# Altium footprint library CE_22X35MM.PcbLib: 1 footprints
Each footprint in its own frame and in the unit in brackets; x right, y up, seen from the top. Pads: shape width x height; smd on the part's side, far side on the other; paste and mask are expansions set on the pad; w line width, h text height; cw(c..) or ccw(c..) is an arc to the next point about the centre after c.
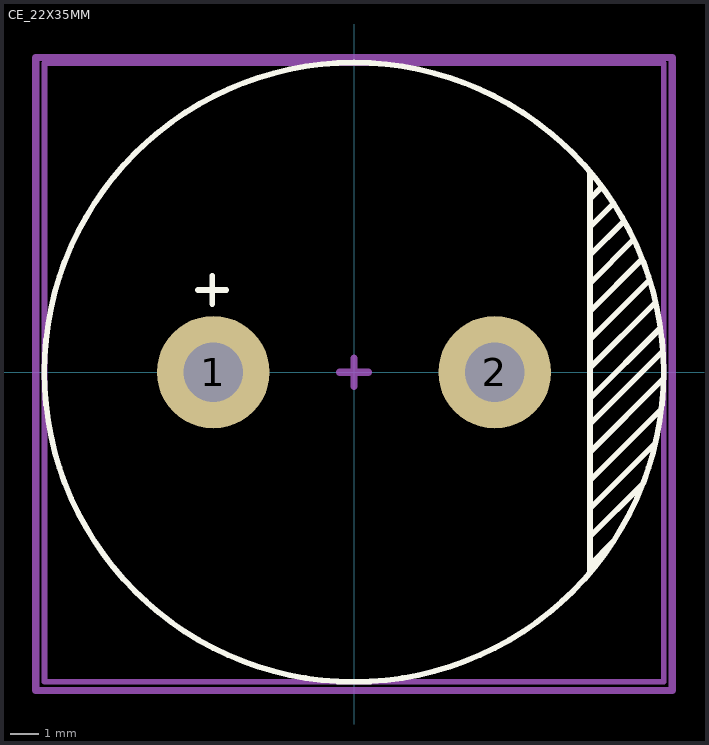
[diagram p0: the footprint, top view; thin cyan lines are the x and y axes]

## CE_22X35MM [mm]
pads (2):
  round 4 hole 2.1: 1(-5,0)
  round 4 hole 2.1 mask+0.102: 2(5,0)
Top Overlay:
  circle w0.2: c0,0 r11
  lines w0.2: -5.54,2.921 -4.54,2.921 ; -5.04,2.421 -5.04,3.421 ; 8.382,-7.112 8.382,7.112 ; 8.382,-6.842 9.201,-6.023 ; 8.382,-5.842 10.257,-3.967 ; 8.382,-4.842 10.67,-2.554 ; 8.382,-3.842 10.92,-1.304 ; 8.382,-2.842 10.995,-0.229 ; 8.382,-1.842 10.957,0.733 ; 8.382,-0.937 10.88,1.56 ; 8.382,0.158 10.707,2.483 ; 8.382,1.158 10.495,3.271 ; 8.382,2.158 10.219,3.995 ; 8.382,3.158 9.932,4.708 ; 8.382,4.158 9.582,5.358 ; 8.382,5.158 9.22,5.996 ; 8.382,6.158 8.795,6.57
Top Assembly:
  circle w0.127: c0,0 r11
  lines w0.2: -10.993,-10.992 11.007,-10.992 11.007,10.983 -10.993,10.983 -10.993,-10.992
Top Courtyard:
  lines w0.254: -0.508,0 0.508,0 ; 0,-0.508 0,0.508 ; -11.303,-11.303 11.303,-11.303 11.303,11.176 -11.303,11.176 -11.303,-11.303
3D body "User Library-Cap electrolitic radial 22x35.STEP": height 35.8, standoff -0.7, extent -10.996,-10.999 10.996,10.998